# Altium footprint library Stm32.PcbLib: 1 footprints
Each footprint in its own frame and in the unit in brackets; x right, y up, seen from the top. Pads: shape width x height; smd on the part's side, far side on the other; paste and mask are expansions set on the pad; w line width, h text height; cw(c..) or ccw(c..) is an arc to the next point about the centre after c.
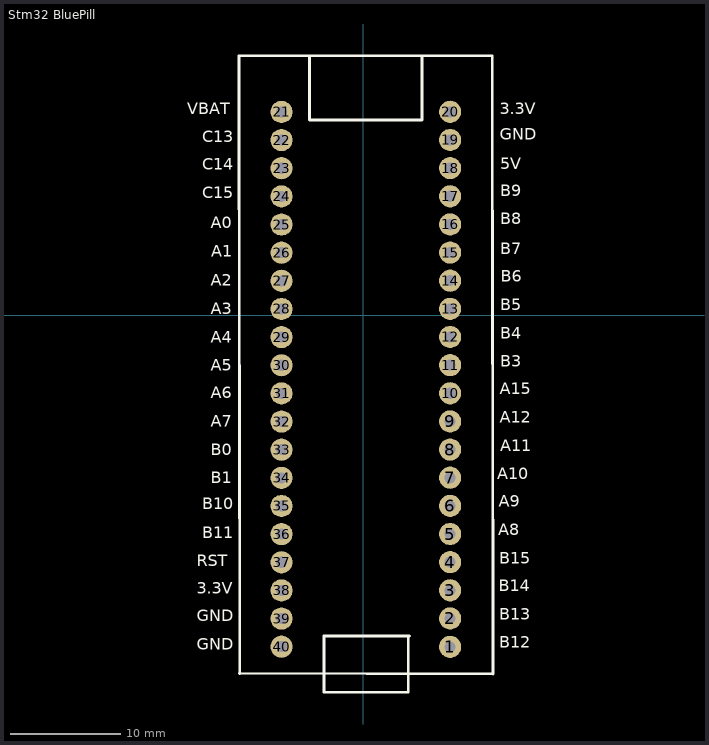
[diagram p0: the footprint, top view; thin cyan lines are the x and y axes]

## Stm32 BluePill [mm]
pads (40):
  round 2 hole 1: 1(7.828,-29.909) 2(7.828,-27.343) 3(7.828,-24.803) 4(7.828,-22.263) 5(7.828,-19.723) 6(7.828,-17.183) 7(7.828,-14.643) 8(7.828,-12.103) 9(7.828,-9.563) 10(7.828,-7.023) 11(7.828,-4.483) 12(7.828,-1.943) 13(7.828,0.597) 14(7.828,3.137) 15(7.828,5.677) 16(7.828,8.217) 17(7.828,10.757) 18(7.828,13.297) 19(7.828,15.837) 20(7.828,18.377) 21(-7.386,18.366) 22(-7.386,15.826) 23(-7.386,13.286) 24(-7.386,10.746) 25(-7.386,8.206) 26(-7.386,5.666) 27(-7.386,3.126) 28(-7.386,0.586) 29(-7.386,-1.954) 30(-7.386,-4.494) 31(-7.386,-7.034) 32(-7.386,-9.574) 33(-7.386,-12.114) 34(-7.386,-14.654) 35(-7.386,-17.194) 36(-7.386,-19.734) 37(-7.386,-22.274) 38(-7.386,-24.814) 39(-7.386,-27.354) 40(-7.386,-29.894)
Top Overlay:
  lines w0.254: -11.171,-32.296 11.694,-32.344 ; -11.158,-32.309 -11.222,23.431 11.638,23.431 11.689,-32.309 ; -3.576,-28.918 -3.576,-33.998 4.044,-33.998 4.044,-28.918 ; -3.556,-28.918 -3.556,-33.998 1.778,-33.998 ; -3.449,-28.918 4.171,-28.918 ; -3.429,-28.918 1.905,-28.918 ; 5.288,23.368 5.288,17.653 -4.872,17.653 ; -4.872,17.653 -4.872,23.368 -4.872,17.653
  text "5V" at 12.375,12.821 h1.78
  text "B9" at 12.375,10.408 h1.78
  text "B8" at 12.375,7.868 h1.78
  text "3.3V" at 12.319,17.799 h1.78
  text "GND" at 12.319,15.513 h1.78
  text "B15" at 12.258,-22.765 h1.78
  text "A8" at 12.183,-20.199 h1.78
  text "A11" at 12.353,-12.624 h1.78
  text "B3" at 12.375,-4.985 h1.78
  text "A9" at 12.213,-17.634 h1.78
  text "A15" at 12.32,-7.474 h1.78
  text "A12" at 12.32,-10.058 h1.78
  text "A10" at 12.066,-15.145 h1.78
  text "B5" at 12.375,0.121 h1.78
  text "B14" at 12.228,-25.248 h1.78
  text "B7" at 12.375,5.156 h1.78
  text "B4" at 12.342,-2.464 h1.78
  text "B6" at 12.405,2.686 h1.78
  text "B13" at 12.248,-27.819 h1.78
  text "B12" at 12.258,-30.328 h1.78
  text "VBAT" at -15.874,17.78 h1.78
  text "C15" at -14.549,10.205 h1.78
  text "C13" at -14.549,15.259 h1.78
  text "C14" at -14.549,12.77 h1.78
  text "A0" at -13.789,7.512 h1.78
  text "A2" at -13.789,2.311 h1.78
  text "A1" at -13.717,4.953 h1.78
  text "A3" at -13.789,-0.235 h1.78
  text "A4" at -13.789,-2.819 h1.78
  text "A5" at -13.789,-5.34 h1.78
  text "3.3V" at -15.057,-25.457 h1.78
  text "B10" at -14.549,-17.862 h1.78
  text "B11" at -14.549,-20.447 h1.78
  text "A6" at -13.789,-7.829 h1.78
  text "A7" at -13.789,-10.414 h1.78
  text "B0" at -13.787,-12.96 h1.78
  text "B1" at -13.787,-15.519 h1.78
  text "GND" at -15.057,-27.946 h1.78
  text "GND" at -15.057,-30.512 h1.78
  text "RST" at -15.057,-22.993 h1.78
3D body "STM32.step": height 12.31, standoff -5.96, extent -11.176,-33.274 11.684,24.286